# Altium integrated library Texas Instruments Interface I2C.IntLib: 424 symbols (part 3 of 23)
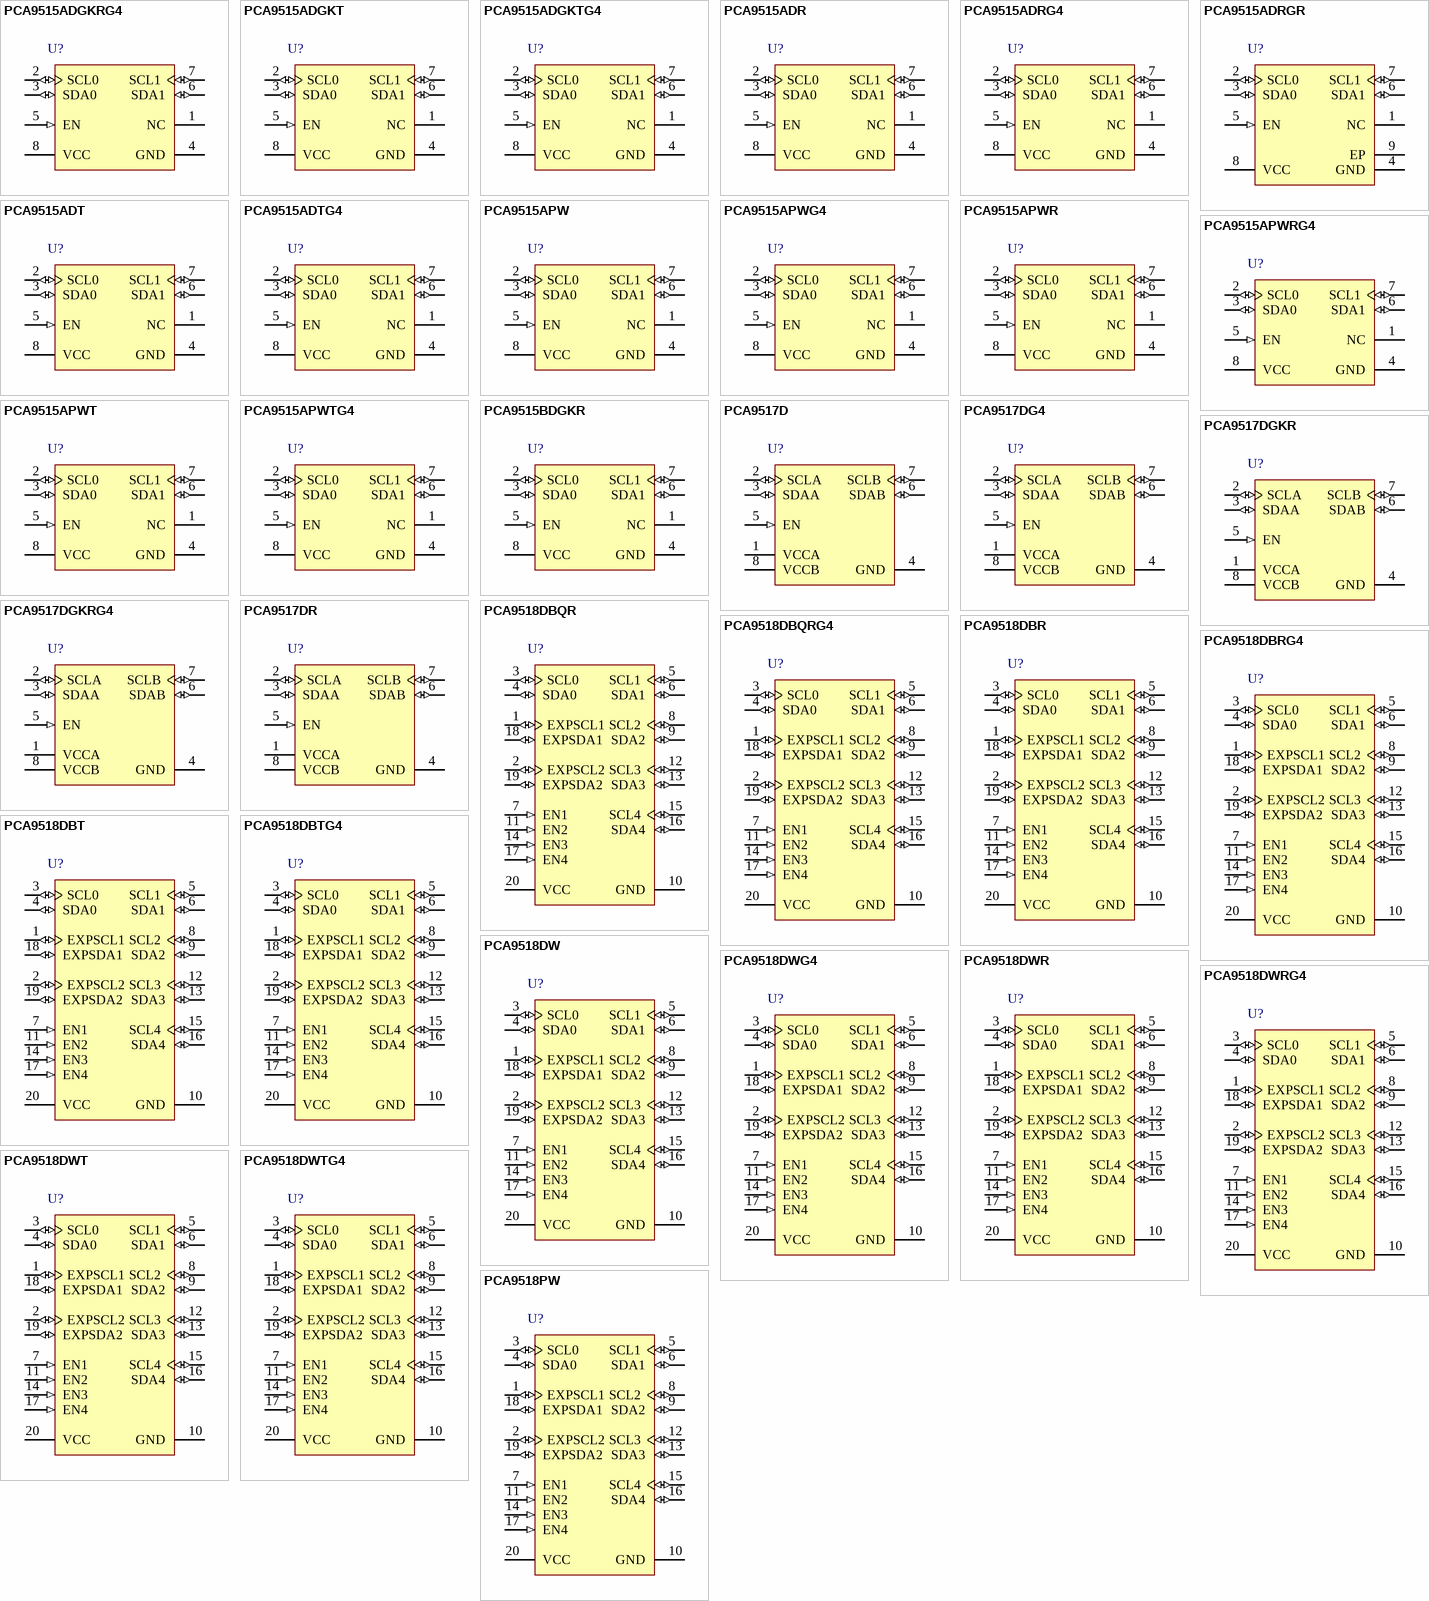
[diagram p15: symbols PCA9515ADGKRG4 to PCA9518PW]

## PCA9515APWRG4
designator U?
Dual Bidirectional I2C Bus and SMBus Repeater, 2 Channel Width, 2.3 to 3.6 V, -40 to 85 degC, 8-pin TSSOP (PW), Green (RoHS & no Sb/Br); Manufacturer: Texas Instruments; PartNumber: PCA9515APWRG4; SubFamily: I2C Hub, Buffer, Repeater; No. of Outputs: 2; VCC(Max)(V): 3.6; VCC(Min)(V): 2.3; Max Frequency(kHz): 400; Vcc range(V): 2.3 to 5.5; 5V Tolerant I/O: Yes; DatasheetVersion: SCPS150B; PackageVersion: revG, Feb-2011; PackageReference: PW8; PackageDescription: 8-Pin Plastic Thin Small Outline Package 3 x 4.4 mm Body ,0.65 mm Pitch; Supplier 1: Digi-Key; Supplier Part Number 1: PCA9515APWRG4-ND; Supplier 2: Mouser; Supplier Part Number 2: 595-PCA9515APWRG4; Eco-Plan: Green (RoHS & no Sb/Br); Channel Width: 2; Master Side I2C Bus Capacitance Supported(pF): 400; Slave Side I2C Bus Capacitance Supported(pF): 400; Open Drain I/O Type: Yes; Enable Pin: Yes; Mounting Technology: Surface Mount; Code_JEDEC: MO-153; ComponentLink1Description: Datasheet; ComponentLink1URL: http://www.ti.com/general/docs/lit/getliterature.tsp?genericPartNumber=PCA9515A&fileType=pdf
footprint PW8_N (TSOP, 8-Leads, Body 3x4.4mm, Pitch 0.65mm, IPC Medium Density)
footprint PW8_L (TSOP, 8-Leads, Body 3x4.4mm, Pitch 0.65mm, IPC High Density)
footprint PW8_M (TSOP, 8-Leads, Body 3x4.4mm, Pitch 0.65mm, IPC Low Density)
pins: 1 NC "No internal connection", 2 SCL0 (io) "Serial clock bus 0", 3 SDA0 (io) "Serial data bus 0", 4 GND (power) "Supply ground", 5 EN (in) "Active-high repeater enable input", 6 SDA1 (io) "Serial data bus 1", 7 SCL1 (io) "Serial clock bus 1", 8 VCC (power) "Supply power"

## PCA9515APWT
designator U?
Dual Bidirectional I2C Bus and SMBus Repeater, 2 Channel Width, 2.3 to 3.6 V, -40 to 85 degC, 8-pin TSSOP (PW), Green (RoHS & no Sb/Br); Manufacturer: Texas Instruments; PartNumber: PCA9515APWT; SubFamily: I2C Hub, Buffer, Repeater; No. of Outputs: 2; VCC(Max)(V): 3.6; VCC(Min)(V): 2.3; Max Frequency(kHz): 400; Vcc range(V): 2.3 to 5.5; 5V Tolerant I/O: Yes; DatasheetVersion: SCPS150B; PackageVersion: revG, Feb-2011; PackageReference: PW8; PackageDescription: 8-Pin Plastic Thin Small Outline Package 3 x 4.4 mm Body ,0.65 mm Pitch; Supplier 1: Digi-Key; Supplier Part Number 1: PCA9515APWT-ND; Supplier 2: Mouser; Supplier Part Number 2: 595-PCA9515APWT; Eco-Plan: Green (RoHS & no Sb/Br); Channel Width: 2; Master Side I2C Bus Capacitance Supported(pF): 400; Slave Side I2C Bus Capacitance Supported(pF): 400; Open Drain I/O Type: Yes; Enable Pin: Yes; Mounting Technology: Surface Mount; Code_JEDEC: MO-153; ComponentLink1Description: Datasheet; ComponentLink1URL: http://www.ti.com/general/docs/lit/getliterature.tsp?genericPartNumber=PCA9515A&fileType=pdf
footprint PW8_N (TSOP, 8-Leads, Body 3x4.4mm, Pitch 0.65mm, IPC Medium Density)
footprint PW8_L (TSOP, 8-Leads, Body 3x4.4mm, Pitch 0.65mm, IPC High Density)
footprint PW8_M (TSOP, 8-Leads, Body 3x4.4mm, Pitch 0.65mm, IPC Low Density)
pins: 1 NC "No internal connection", 2 SCL0 (io) "Serial clock bus 0", 3 SDA0 (io) "Serial data bus 0", 4 GND (power) "Supply ground", 5 EN (in) "Active-high repeater enable input", 6 SDA1 (io) "Serial data bus 1", 7 SCL1 (io) "Serial clock bus 1", 8 VCC (power) "Supply power"

## PCA9515APWTG4
designator U?
Dual Bidirectional I2C Bus and SMBus Repeater, 2 Channel Width, 2.3 to 3.6 V, -40 to 85 degC, 8-pin TSSOP (PW), Green (RoHS & no Sb/Br); Manufacturer: Texas Instruments; PartNumber: PCA9515APWTG4; SubFamily: I2C Hub, Buffer, Repeater; No. of Outputs: 2; VCC(Max)(V): 3.6; VCC(Min)(V): 2.3; Max Frequency(kHz): 400; Vcc range(V): 2.3 to 5.5; 5V Tolerant I/O: Yes; DatasheetVersion: SCPS150B; PackageVersion: revG, Feb-2011; PackageReference: PW8; PackageDescription: 8-Pin Plastic Thin Small Outline Package 3 x 4.4 mm Body ,0.65 mm Pitch; Supplier 1: Digi-Key; Supplier Part Number 1: PCA9515APWTG4-ND; Supplier 2: Mouser; Supplier Part Number 2: 595-PCA9515APWTG4; Eco-Plan: Green (RoHS & no Sb/Br); Channel Width: 2; Master Side I2C Bus Capacitance Supported(pF): 400; Slave Side I2C Bus Capacitance Supported(pF): 400; Open Drain I/O Type: Yes; Enable Pin: Yes; Mounting Technology: Surface Mount; Code_JEDEC: MO-153; ComponentLink1Description: Datasheet; ComponentLink1URL: http://www.ti.com/general/docs/lit/getliterature.tsp?genericPartNumber=PCA9515A&fileType=pdf
footprint PW8_N (TSOP, 8-Leads, Body 3x4.4mm, Pitch 0.65mm, IPC Medium Density)
footprint PW8_L (TSOP, 8-Leads, Body 3x4.4mm, Pitch 0.65mm, IPC High Density)
footprint PW8_M (TSOP, 8-Leads, Body 3x4.4mm, Pitch 0.65mm, IPC Low Density)
pins: 1 NC "No internal connection", 2 SCL0 (io) "Serial clock bus 0", 3 SDA0 (io) "Serial data bus 0", 4 GND (power) "Supply ground", 5 EN (in) "Active-high repeater enable input", 6 SDA1 (io) "Serial data bus 1", 7 SCL1 (io) "Serial clock bus 1", 8 VCC (power) "Supply power"

## PCA9515BDGKR
designator U?
Dual Bidirectional I2C Bus and SMBus Repeater, 2 Channel Width, 2.3 to 3.6 V, -40 to 85 degC, 8-pin MSOP (DGK), Green (RoHS & no Sb/Br); Manufacturer: Texas Instruments; PartNumber: PCA9515BDGKR; SubFamily: I2C Hub, Buffer, Repeater; No. of Outputs: 2; VCC(Max)(V): 3.6; VCC(Min)(V): 2.3; Max Frequency(kHz): 400; Vcc range(V): 2.3 to 5.5; 5V Tolerant I/O: Yes; DatasheetVersion: SCPS232; PackageVersion: revE, May-2006; PackageReference: DGK8; PackageDescription: 8-Pin Thin Small Outline Package 3 x 3 mm Body ,0.65 mm Pitch; Supplier 1: Digi-Key; Supplier Part Number 1: 296-30393-2-ND; Supplier 2: Digi-Key; Supplier Part Number 2: 296-30393-1-ND; Supplier 3: Digi-Key; Supplier Part Number 3: 296-30393-6-ND; Supplier 4: Newark; Supplier Part Number 4: 92T2268; Supplier 5: Mouser; Supplier Part Number 5: 595-PCA9515BDGKR; Eco-Plan: Green (RoHS & no Sb/Br); Channel Width: 2; Master Side I2C Bus Capacitance Supported(pF): 400; Slave Side I2C Bus Capacitance Supported(pF): 400; Open Drain I/O Type: Yes; Enable Pin: Yes; Mounting Technology: Surface Mount; Code_JEDEC: MO-187-AA; ComponentLink1Description: Datasheet; ComponentLink1URL: http://www.ti.com/general/docs/lit/getliterature.tsp?genericPartNumber=PCA9515B&fileType=pdf; ComponentLink2Description: Package Specification; ComponentLink2URL: http://www.ti.com/litv/pdf/msoi002j
footprint DGK8_N (TSOP, 8-Leads, Body 3x3mm, Pitch 0.65mm, IPC Medium Density)
footprint DGK8_L (TSOP, 8-Leads, Body 3x3mm, Pitch 0.65mm, IPC High Density)
footprint DGK8_M (TSOP, 8-Leads, Body 3x3mm, Pitch 0.65mm, IPC Low Density)
pins: 1 NC "No internal connection", 2 SCL0 (io) "Serial clock bus 0", 3 SDA0 (io) "Serial data bus 0", 4 GND (power) "Supply ground", 5 EN (in) "Active-high repeater enable input", 6 SDA1 (io) "Serial data bus 1", 7 SCL1 (io) "Serial clock bus 1", 8 VCC (power) "Supply power"

## PCA9517D
designator U?
Level-Translating I2C Bus Repeater, 2 Channel Width, 0.9 to 5.5 V, -40 to 85 degC, 8-pin SOIC (D), Green (RoHS & no Sb/Br); Manufacturer: Texas Instruments; PartNumber: PCA9517D; SubFamily: I2C Hub, Buffer, Repeater; VCC(Max)(V): 5.5; VCC(Min)(V): 0.9; Technology Family: PCA; Max Frequency(kHz): 400; Channel Width: 2; 5V Tolerant I/O: Yes; DatasheetVersion: SCPS157D; PackageVersion: revM, Jun-2011; PackageReference: D8; PackageDescription: 8-Pin Plastic Small Outline Integrated Circuit, 4.9 x 3.9 mm, Pitch 1.27 mm Pitch; Supplier 1: Digi-Key; Supplier Part Number 1: PCA9517DTI-ND; Supplier 2: Farnell; Supplier Part Number 2: 1703190; Supplier 3: Newark; Supplier Part Number 3: 71M0457; Supplier 4: Mouser; Supplier Part Number 4: 595-PCA9517D; Eco-Plan: Green (RoHS & no Sb/Br); Vcc range(V): 0.9 to 5.5; Master Side I2C Bus Capacitance Supported(pF): 400; Slave Side I2C Bus Capacitance Supported(pF): 400; Open Drain I/O Type: Yes; Enable Pin: Yes; Mounting Technology: Surface Mount; Code_JEDEC: MS-012AA; ComponentLink1Description: Datasheet; ComponentLink1URL: http://www.ti.com/general/docs/lit/getliterature.tsp?genericPartNumber=PCA9517&fileType=pdf
footprint D8_N (SOIC, 8-Leads, Body 4.9x3.9mm, Pitch 1.27mm, IPC Medium Density)
footprint D8_L (SOIC, 8-Leads, Body 4.9x3.9mm, Pitch 1.27mm, IPC High Density)
footprint D8_M (SOIC, 8-Leads, Body 4.9x3.9mm, Pitch 1.27mm, IPC Low Density)
pins: 1 VCCA (power) "A-side supply voltage (0.9 V to 5.5 V)", 2 SCLA (io) "Serial clock bus, A side. Connect to VCCA through a pullup resistor.", 3 SDAA (io) "Serial data bus, A side. Connect to VCCA through a pullup resistor.", 4 GND (power) "Supply ground", 5 EN (in) "Active-high repeater enable input", 6 SDAB (io) "Serial data bus, B side. Connect to VCCB through a pullup resistor.", 7 SCLB (io) "Serial clock bus, B side. Connect to VCCB through a pullup resistor.", 8 VCCB (power) "B-side and device supply voltage (2.7 V to 5.5 V)"

## PCA9517DG4
designator U?
Level-Translating I2C Bus Repeater, 2 Channel Width, 0.9 to 5.5 V, -40 to 85 degC, 8-pin SOIC (D), Green (RoHS & no Sb/Br); Manufacturer: Texas Instruments; PartNumber: PCA9517DG4; SubFamily: I2C Hub, Buffer, Repeater; VCC(Max)(V): 5.5; VCC(Min)(V): 0.9; Technology Family: PCA; Max Frequency(kHz): 400; Channel Width: 2; 5V Tolerant I/O: Yes; DatasheetVersion: SCPS157D; PackageVersion: revM, Jun-2011; PackageReference: D8; PackageDescription: 8-Pin Plastic Small Outline Integrated Circuit, 4.9 x 3.9 mm, Pitch 1.27 mm Pitch; Supplier 1: Digi-Key; Supplier Part Number 1: PCA9517DG4-ND; Supplier 2: Newark; Supplier Part Number 2: 72M4291; Supplier 3: Mouser; Supplier Part Number 3: 595-PCA9517DG4; Eco-Plan: Green (RoHS & no Sb/Br); Vcc range(V): 0.9 to 5.5; Master Side I2C Bus Capacitance Supported(pF): 400; Slave Side I2C Bus Capacitance Supported(pF): 400; Open Drain I/O Type: Yes; Enable Pin: Yes; Mounting Technology: Surface Mount; Code_JEDEC: MS-012AA; ComponentLink1Description: Datasheet; ComponentLink1URL: http://www.ti.com/general/docs/lit/getliterature.tsp?genericPartNumber=PCA9517&fileType=pdf
footprint D8_N (SOIC, 8-Leads, Body 4.9x3.9mm, Pitch 1.27mm, IPC Medium Density)
footprint D8_L (SOIC, 8-Leads, Body 4.9x3.9mm, Pitch 1.27mm, IPC High Density)
footprint D8_M (SOIC, 8-Leads, Body 4.9x3.9mm, Pitch 1.27mm, IPC Low Density)
pins: 1 VCCA (power) "A-side supply voltage (0.9 V to 5.5 V)", 2 SCLA (io) "Serial clock bus, A side. Connect to VCCA through a pullup resistor.", 3 SDAA (io) "Serial data bus, A side. Connect to VCCA through a pullup resistor.", 4 GND (power) "Supply ground", 5 EN (in) "Active-high repeater enable input", 6 SDAB (io) "Serial data bus, B side. Connect to VCCB through a pullup resistor.", 7 SCLB (io) "Serial clock bus, B side. Connect to VCCB through a pullup resistor.", 8 VCCB (power) "B-side and device supply voltage (2.7 V to 5.5 V)"

## PCA9517DGKR
designator U?
Level-Translating I2C Bus Repeater, 2 Channel Width, 0.9 to 5.5 V, -40 to 85 degC, 8-pin MSOP (DGK), Green (RoHS & no Sb/Br); Manufacturer: Texas Instruments; PartNumber: PCA9517DGKR; SubFamily: I2C Hub, Buffer, Repeater; VCC(Max)(V): 5.5; VCC(Min)(V): 0.9; Technology Family: PCA; Max Frequency(kHz): 400; Channel Width: 2; 5V Tolerant I/O: Yes; DatasheetVersion: SCPS157D; PackageVersion: revE, May-2006; PackageReference: DGK8; PackageDescription: 8-Pin Thin Small Outline Package 3 x 3 mm Body ,0.65 mm Pitch; Supplier 1: Digi-Key; Supplier Part Number 1: 296-24730-2-ND; Supplier 2: Digi-Key; Supplier Part Number 2: 296-24730-1-ND; Supplier 3: Digi-Key; Supplier Part Number 3: 296-24730-6-ND; Supplier 4: Newark; Supplier Part Number 4: 73M3916; Supplier 5: Mouser; Supplier Part Number 5: 595-PCA9517DGKR; Eco-Plan: Green (RoHS & no Sb/Br); Vcc range(V): 0.9 to 5.5; Master Side I2C Bus Capacitance Supported(pF): 400; Slave Side I2C Bus Capacitance Supported(pF): 400; Open Drain I/O Type: Yes; Enable Pin: Yes; Mounting Technology: Surface Mount; Code_JEDEC: MO-187-AA; ComponentLink1Description: Datasheet; ComponentLink1URL: http://www.ti.com/general/docs/lit/getliterature.tsp?genericPartNumber=PCA9517&fileType=pdf; ComponentLink2Description: Package Specification; ComponentLink2URL: http://www.ti.com/litv/pdf/msoi002j
footprint DGK8_N (TSOP, 8-Leads, Body 3x3mm, Pitch 0.65mm, IPC Medium Density)
footprint DGK8_L (TSOP, 8-Leads, Body 3x3mm, Pitch 0.65mm, IPC High Density)
footprint DGK8_M (TSOP, 8-Leads, Body 3x3mm, Pitch 0.65mm, IPC Low Density)
pins: 1 VCCA (power) "A-side supplyVoltage (0.9V to 5.5V)", 2 SCLA (io) "Serial clock bus, A side. Connect to VCCA  through a pullup resistor.", 3 SDAA (io) "Serial data bus, A side. Connect to VCCA  through a pullup resistor.", 4 GND (power) "Supply ground", 5 EN (in) "Active-high repeater enable input", 6 SDAB (io) "Serial data bus, B side. Connect toVCBB   through a pullup resistor.", 7 SCLB (io) "Serial clock bus, B side. Connect to VCCB through a pullup resistor.", 8 VCCB (power) "B-side and device supplyVoltage (2.7V to 5.5V)"

## PCA9517DGKRG4
designator U?
Level-Translating I2C Bus Repeater, 2 Channel Width, 0.9 to 5.5 V, -40 to 85 degC, 8-pin MSOP (DGK), Green (RoHS & no Sb/Br); Manufacturer: Texas Instruments; PartNumber: PCA9517DGKRG4; SubFamily: I2C Hub, Buffer, Repeater; VCC(Max)(V): 5.5; VCC(Min)(V): 0.9; Technology Family: PCA; Max Frequency(kHz): 400; Channel Width: 2; 5V Tolerant I/O: Yes; DatasheetVersion: SCPS157D; PackageVersion: revE, May-2006; PackageReference: DGK8; PackageDescription: 8-Pin Thin Small Outline Package 3 x 3 mm Body ,0.65 mm Pitch; Supplier 1: Digi-Key; Supplier Part Number 1: PCA9517DGKRG4-ND; Supplier 2: Mouser; Supplier Part Number 2: 595-PCA9517DGKRG4; Eco-Plan: Green (RoHS & no Sb/Br); Vcc range(V): 0.9 to 5.5; Master Side I2C Bus Capacitance Supported(pF): 400; Slave Side I2C Bus Capacitance Supported(pF): 400; Open Drain I/O Type: Yes; Enable Pin: Yes; Mounting Technology: Surface Mount; Code_JEDEC: MO-187-AA; ComponentLink1Description: Datasheet; ComponentLink1URL: http://www.ti.com/general/docs/lit/getliterature.tsp?genericPartNumber=PCA9517&fileType=pdf; ComponentLink2Description: Package Specification; ComponentLink2URL: http://www.ti.com/litv/pdf/msoi002j
footprint DGK8_N (TSOP, 8-Leads, Body 3x3mm, Pitch 0.65mm, IPC Medium Density)
footprint DGK8_L (TSOP, 8-Leads, Body 3x3mm, Pitch 0.65mm, IPC High Density)
footprint DGK8_M (TSOP, 8-Leads, Body 3x3mm, Pitch 0.65mm, IPC Low Density)
pins: 1 VCCA (power) "A-side supplyVoltage (0.9V to 5.5V)", 2 SCLA (io) "Serial clock bus, A side. Connect to VCCA  through a pullup resistor.", 3 SDAA (io) "Serial data bus, A side. Connect to VCCA  through a pullup resistor.", 4 GND (power) "Supply ground", 5 EN (in) "Active-high repeater enable input", 6 SDAB (io) "Serial data bus, B side. Connect toVCBB   through a pullup resistor.", 7 SCLB (io) "Serial clock bus, B side. Connect to VCCB through a pullup resistor.", 8 VCCB (power) "B-side and device supplyVoltage (2.7V to 5.5V)"

## PCA9517DR
designator U?
Level-Translating I2C Bus Repeater, 2 Channel Width, 0.9 to 5.5 V, -40 to 85 degC, 8-pin SOIC (D), Green (RoHS & no Sb/Br); Manufacturer: Texas Instruments; PartNumber: PCA9517DR; SubFamily: I2C Hub, Buffer, Repeater; VCC(Max)(V): 5.5; VCC(Min)(V): 0.9; Technology Family: PCA; Max Frequency(kHz): 400; Channel Width: 2; 5V Tolerant I/O: Yes; DatasheetVersion: SCPS157D; PackageVersion: revM, Jun-2011; PackageReference: D8; PackageDescription: 8-Pin Plastic Small Outline Integrated Circuit, 4.9 x 3.9 mm, Pitch 1.27 mm Pitch; Supplier 1: Digi-Key; Supplier Part Number 1: 296-23734-2-ND; Supplier 2: Digi-Key; Supplier Part Number 2: 296-23734-1-ND; Supplier 3: Digi-Key; Supplier Part Number 3: 296-23734-6-ND; Supplier 4: Newark; Supplier Part Number 4: 72M4292; Supplier 5: Mouser; Supplier Part Number 5: 595-PCA9517DR; Eco-Plan: Green (RoHS & no Sb/Br); Vcc range(V): 0.9 to 5.5; Master Side I2C Bus Capacitance Supported(pF): 400; Slave Side I2C Bus Capacitance Supported(pF): 400; Open Drain I/O Type: Yes; Enable Pin: Yes; Mounting Technology: Surface Mount; Code_JEDEC: MS-012AA; ComponentLink1Description: Datasheet; ComponentLink1URL: http://www.ti.com/general/docs/lit/getliterature.tsp?genericPartNumber=PCA9517&fileType=pdf
footprint D8_N (SOIC, 8-Leads, Body 4.9x3.9mm, Pitch 1.27mm, IPC Medium Density)
footprint D8_L (SOIC, 8-Leads, Body 4.9x3.9mm, Pitch 1.27mm, IPC High Density)
footprint D8_M (SOIC, 8-Leads, Body 4.9x3.9mm, Pitch 1.27mm, IPC Low Density)
pins: 1 VCCA (power) "A-side supply voltage (0.9 V to 5.5 V)", 2 SCLA (io) "Serial clock bus, A side. Connect to VCCA through a pullup resistor.", 3 SDAA (io) "Serial data bus, A side. Connect to VCCA through a pullup resistor.", 4 GND (power) "Supply ground", 5 EN (in) "Active-high repeater enable input", 6 SDAB (io) "Serial data bus, B side. Connect to VCCB through a pullup resistor.", 7 SCLB (io) "Serial clock bus, B side. Connect to VCCB through a pullup resistor.", 8 VCCB (power) "B-side and device supply voltage (2.7 V to 5.5 V)"

## PCA9518DBQR
designator U?
Expandable Five-Channel I2C Hub, 5 Channel Width, 3.0 to 3.6 V, -40 to 85 degC, 20-pin SSOP (DBQ), Green (RoHS & no Sb/Br); Manufacturer: Texas Instruments; PartNumber: PCA9518DBQR; SubFamily: I2C Hub, Buffer, Repeater; VCC(Max)(V): 3.6; VCC(Min)(V): 3; Technology Family: PCA; Max Frequency(kHz): 400; Channel Width: 5; EXP Pin: Yes; DatasheetVersion: SCPS132A; PackageVersion: revH, Oct-2008; PackageReference: DBQ20; PackageDescription: 20-Pin Small Outline Package 0.635 mm Pitch; Supplier 1: Digi-Key; Supplier Part Number 1: 296-22764-2-ND; Supplier 2: Digi-Key; Supplier Part Number 2: 296-22764-1-ND; Supplier 3: Digi-Key; Supplier Part Number 3: 296-22764-6-ND; Supplier 4: Mouser; Supplier Part Number 4: 595-PCA9518DBQR; Eco-Plan: Green (RoHS & no Sb/Br); Vcc range(V): 3.0 to 3.6; Master Side I2C Bus Capacitance Supported(pF): 400; Slave Side I2C Bus Capacitance Supported(pF): 400; 5V Tolerant I/O: Yes; Open Drain I/O Type: Yes; Enable Pin: Yes; Mounting Technology: Surface Mount; Code_JEDEC: MO-137-AD; ComponentLink1Description: Datasheet; ComponentLink1URL: http://www.ti.com/general/docs/lit/getliterature.tsp?genericPartNumber=PCA9518&fileType=pdf; ComponentLink2Description: Package Specification; ComponentLink2URL: http://www.ti.com/litv/pdf/mpds210a
footprint DBQ020_N (SOP, 20-Leads, Body 8.7x3.9mm, Pitch 0.635mm, IPC Medium Density)
footprint DBQ020_L (SOP, 20-Leads, Body 8.7x3.9mm, Pitch 0.635mm, IPC High Density)
footprint DBQ020_M (SOP, 20-Leads, Body 8.7x3.9mm, Pitch 0.635mm, IPC Low Density)
pins: 1 EXPSCL1 (io) "Expandable serial clock pin 1. Connect to VCC through a pullup resistor.", 2 EXPSCL2 (io) "Expandable serial clock pin 2. Connect to VCC through a pullup resistor.", 3 SCL0 (io) "Serial clock bus 0. Connect to VCC through a pullup resistor.", 4 SDA0 (io) "Serial data bus 0. Connect to VCC through a pullup resistor.", 5 SCL1 (io) "Serial clock bus 1. Connect to VCC through a pullup resistor.", 6 SDA1 (io) "Serial data bus 1. Connect to VCC through a pullup resistor.", 7 EN1 (in) "Active-high bus enable 1", 8 SCL2 (io) "Serial clock bus 2. Connect to VCC through a pullup resistor.", 9 SDA2 (io) "Serial data bus 2. Connect to VCC through a pullup resistor.", 10 GND (power) "Ground", 11 EN2 (in) "Active-high bus enable 2", 12 SCL3 (io) "Serial clock bus 3. Connect to VCC through a pullup resistor.", 13 SDA3 (io) "Serial data bus 3. Connect to VCC through a pullup resistor.", 14 EN3 (in) "Active-high bus enable 3", 15 SCL4 (io) "Serial clock bus 4. Connect to VCC through a pullup resistor.", 16 SDA4 (io) "Serial data bus 4. Connect to VCC through a pullup resistor.", 17 EN4 (in) "Active-high bus enable 4", 18 EXPSDA1 (io) "Expandable serial data pin 1. Connect to VCC through a pullup resistor.", 19 EXPSDA2 (io) "Expandable serial data pin 2. Connect to VCC through a pullup resistor.", 20 VCC (power) "Supply Voltage"

## PCA9518DBQRG4
designator U?
Expandable Five-Channel I2C Hub, 5 Channel Width, 3.0 to 3.6 V, -40 to 85 degC, 20-pin SSOP (DBQ), Green (RoHS & no Sb/Br); Manufacturer: Texas Instruments; PartNumber: PCA9518DBQRG4; SubFamily: I2C Hub, Buffer, Repeater; VCC(Max)(V): 3.6; VCC(Min)(V): 3; Technology Family: PCA; Max Frequency(kHz): 400; Channel Width: 5; EXP Pin: Yes; DatasheetVersion: SCPS132A; PackageVersion: revH, Oct-2008; PackageReference: DBQ20; PackageDescription: 20-Pin Small Outline Package 0.635 mm Pitch; Supplier 1: Digi-Key; Supplier Part Number 1: PCA9518DBQRG4-ND; Supplier 2: Mouser; Supplier Part Number 2: 595-PCA9518DBQRG4; Eco-Plan: Green (RoHS & no Sb/Br); Vcc range(V): 3.0 to 3.6; Master Side I2C Bus Capacitance Supported(pF): 400; Slave Side I2C Bus Capacitance Supported(pF): 400; 5V Tolerant I/O: Yes; Open Drain I/O Type: Yes; Enable Pin: Yes; Mounting Technology: Surface Mount; Code_JEDEC: MO-137-AD; ComponentLink1Description: Datasheet; ComponentLink1URL: http://www.ti.com/general/docs/lit/getliterature.tsp?genericPartNumber=PCA9518&fileType=pdf; ComponentLink2Description: Package Specification; ComponentLink2URL: http://www.ti.com/litv/pdf/mpds210a
footprint DBQ020_N (SOP, 20-Leads, Body 8.7x3.9mm, Pitch 0.635mm, IPC Medium Density)
footprint DBQ020_L (SOP, 20-Leads, Body 8.7x3.9mm, Pitch 0.635mm, IPC High Density)
footprint DBQ020_M (SOP, 20-Leads, Body 8.7x3.9mm, Pitch 0.635mm, IPC Low Density)
pins: 1 EXPSCL1 (io) "Expandable serial clock pin 1. Connect to VCC through a pullup resistor.", 2 EXPSCL2 (io) "Expandable serial clock pin 2. Connect to VCC through a pullup resistor.", 3 SCL0 (io) "Serial clock bus 0. Connect to VCC through a pullup resistor.", 4 SDA0 (io) "Serial data bus 0. Connect to VCC through a pullup resistor.", 5 SCL1 (io) "Serial clock bus 1. Connect to VCC through a pullup resistor.", 6 SDA1 (io) "Serial data bus 1. Connect to VCC through a pullup resistor.", 7 EN1 (in) "Active-high bus enable 1", 8 SCL2 (io) "Serial clock bus 2. Connect to VCC through a pullup resistor.", 9 SDA2 (io) "Serial data bus 2. Connect to VCC through a pullup resistor.", 10 GND (power) "Ground", 11 EN2 (in) "Active-high bus enable 2", 12 SCL3 (io) "Serial clock bus 3. Connect to VCC through a pullup resistor.", 13 SDA3 (io) "Serial data bus 3. Connect to VCC through a pullup resistor.", 14 EN3 (in) "Active-high bus enable 3", 15 SCL4 (io) "Serial clock bus 4. Connect to VCC through a pullup resistor.", 16 SDA4 (io) "Serial data bus 4. Connect to VCC through a pullup resistor.", 17 EN4 (in) "Active-high bus enable 4", 18 EXPSDA1 (io) "Expandable serial data pin 1. Connect to VCC through a pullup resistor.", 19 EXPSDA2 (io) "Expandable serial data pin 2. Connect to VCC through a pullup resistor.", 20 VCC (power) "Supply Voltage"

## PCA9518DBR
designator U?
Expandable Five-Channel I2C Hub, 5 Channel Width, 3.0 to 3.6 V, -40 to 85 degC, 20-pin SSOP (DB), Green (RoHS & no Sb/Br); Manufacturer: Texas Instruments; PartNumber: PCA9518DBR; SubFamily: I2C Hub, Buffer, Repeater; VCC(Max)(V): 3.6; VCC(Min)(V): 3; Technology Family: PCA; Max Frequency(kHz): 400; Channel Width: 5; EXP Pin: Yes; DatasheetVersion: SCPS132A; PackageVersion: revE, Dec-2001; PackageReference: DB20; PackageDescription: 20-Pin Plastic Small Outline Package, 7.2 x 5.3 mm Body, 0.65 mm Pitch; Supplier 1: Digi-Key; Supplier Part Number 1: 296-22765-2-ND; Supplier 2: Digi-Key; Supplier Part Number 2: 296-22765-1-ND; Supplier 3: Digi-Key; Supplier Part Number 3: 296-22765-6-ND; Supplier 4: Mouser; Supplier Part Number 4: 595-PCA9518DBR; Eco-Plan: Green (RoHS & no Sb/Br); Vcc range(V): 3.0 to 3.6; Master Side I2C Bus Capacitance Supported(pF): 400; Slave Side I2C Bus Capacitance Supported(pF): 400; 5V Tolerant I/O: Yes; Open Drain I/O Type: Yes; Enable Pin: Yes; Mounting Technology: Surface Mount; Code_JEDEC: MO-150; ComponentLink1Description: Datasheet; ComponentLink1URL: http://www.ti.com/general/docs/lit/getliterature.tsp?genericPartNumber=PCA9518&fileType=pdf; ComponentLink2Description: Package Specification; ComponentLink2URL: http://www.ti.com/litv/pdf/msso002e
footprint DB20_N (SOP, 20-Leads, Body 7.2x5.3mm, Pitch 0.65mm, IPC Medium Density)
footprint DB20_L (SOP, 20-Leads, Body 7.2x5.3mm, Pitch 0.65mm, IPC High Density)
footprint DB20_M (SOP, 20-Leads, Body 7.2x5.3mm, Pitch 0.65mm, IPC Low Density)
pins: 1 EXPSCL1 (io) "Expandable serial clock pin 1. Connect to VCC through a pullup resistor.", 2 EXPSCL2 (io) "Expandable serial clock pin 2. Connect to VCC through a pullup resistor.", 3 SCL0 (io) "Serial clock bus 0. Connect to VCC through a pullup resistor.", 4 SDA0 (io) "Serial data bus 0. Connect to VCC through a pullup resistor.", 5 SCL1 (io) "Serial clock bus 1. Connect to VCC through a pullup resistor.", 6 SDA1 (io) "Serial data bus 1. Connect to VCC through a pullup resistor.", 7 EN1 (in) "Active-high bus enable 1", 8 SCL2 (io) "Serial clock bus 2. Connect to VCC through a pullup resistor.", 9 SDA2 (io) "Serial data bus 2. Connect to VCC through a pullup resistor.", 10 GND (power) "Ground", 11 EN2 (in) "Active-high bus enable 2", 12 SCL3 (io) "Serial clock bus 3. Connect to VCC through a pullup resistor.", 13 SDA3 (io) "Serial data bus 3. Connect to VCC through a pullup resistor.", 14 EN3 (in) "Active-high bus enable 3", 15 SCL4 (io) "Serial clock bus 4. Connect to VCC through a pullup resistor.", 16 SDA4 (io) "Serial data bus 4. Connect to VCC through a pullup resistor.", 17 EN4 (in) "Active-high bus enable 4", 18 EXPSDA1 (io) "Expandable serial data pin 1. Connect to VCC through a pullup resistor.", 19 EXPSDA2 (io) "Expandable serial data pin 2. Connect to VCC through a pullup resistor.", 20 VCC (power) "Supply Voltage"

## PCA9518DBRG4
designator U?
Expandable Five-Channel I2C Hub, 5 Channel Width, 3.0 to 3.6 V, -40 to 85 degC, 20-pin SSOP (DB), Green (RoHS & no Sb/Br); Manufacturer: Texas Instruments; PartNumber: PCA9518DBRG4; SubFamily: I2C Hub, Buffer, Repeater; VCC(Max)(V): 3.6; VCC(Min)(V): 3; Technology Family: PCA; Max Frequency(kHz): 400; Channel Width: 5; EXP Pin: Yes; DatasheetVersion: SCPS132A; PackageVersion: revE, Dec-2001; PackageReference: DB20; PackageDescription: 20-Pin Plastic Small Outline Package, 7.2 x 5.3 mm Body, 0.65 mm Pitch; Supplier 1: Digi-Key; Supplier Part Number 1: PCA9518DBRG4-ND; Supplier 2: Mouser; Supplier Part Number 2: 595-PCA9518DBRG4; Eco-Plan: Green (RoHS & no Sb/Br); Vcc range(V): 3.0 to 3.6; Master Side I2C Bus Capacitance Supported(pF): 400; Slave Side I2C Bus Capacitance Supported(pF): 400; 5V Tolerant I/O: Yes; Open Drain I/O Type: Yes; Enable Pin: Yes; Mounting Technology: Surface Mount; Code_JEDEC: MO-150; ComponentLink1Description: Datasheet; ComponentLink1URL: http://www.ti.com/general/docs/lit/getliterature.tsp?genericPartNumber=PCA9518&fileType=pdf; ComponentLink2Description: Package Specification; ComponentLink2URL: http://www.ti.com/litv/pdf/msso002e
footprint DB20_N (SOP, 20-Leads, Body 7.2x5.3mm, Pitch 0.65mm, IPC Medium Density)
footprint DB20_L (SOP, 20-Leads, Body 7.2x5.3mm, Pitch 0.65mm, IPC High Density)
footprint DB20_M (SOP, 20-Leads, Body 7.2x5.3mm, Pitch 0.65mm, IPC Low Density)
pins: 1 EXPSCL1 (io) "Expandable serial clock pin 1. Connect to VCC through a pullup resistor.", 2 EXPSCL2 (io) "Expandable serial clock pin 2. Connect to VCC through a pullup resistor.", 3 SCL0 (io) "Serial clock bus 0. Connect to VCC through a pullup resistor.", 4 SDA0 (io) "Serial data bus 0. Connect to VCC through a pullup resistor.", 5 SCL1 (io) "Serial clock bus 1. Connect to VCC through a pullup resistor.", 6 SDA1 (io) "Serial data bus 1. Connect to VCC through a pullup resistor.", 7 EN1 (in) "Active-high bus enable 1", 8 SCL2 (io) "Serial clock bus 2. Connect to VCC through a pullup resistor.", 9 SDA2 (io) "Serial data bus 2. Connect to VCC through a pullup resistor.", 10 GND (power) "Ground", 11 EN2 (in) "Active-high bus enable 2", 12 SCL3 (io) "Serial clock bus 3. Connect to VCC through a pullup resistor.", 13 SDA3 (io) "Serial data bus 3. Connect to VCC through a pullup resistor.", 14 EN3 (in) "Active-high bus enable 3", 15 SCL4 (io) "Serial clock bus 4. Connect to VCC through a pullup resistor.", 16 SDA4 (io) "Serial data bus 4. Connect to VCC through a pullup resistor.", 17 EN4 (in) "Active-high bus enable 4", 18 EXPSDA1 (io) "Expandable serial data pin 1. Connect to VCC through a pullup resistor.", 19 EXPSDA2 (io) "Expandable serial data pin 2. Connect to VCC through a pullup resistor.", 20 VCC (power) "Supply Voltage"

## PCA9518DBT
designator U?
Expandable Five-Channel I2C Hub, 5 Channel Width, 3.0 to 3.6 V, -40 to 85 degC, 20-pin SSOP (DB), Green (RoHS & no Sb/Br); Manufacturer: Texas Instruments; PartNumber: PCA9518DBT; SubFamily: I2C Hub, Buffer, Repeater; VCC(Max)(V): 3.6; VCC(Min)(V): 3; Technology Family: PCA; Max Frequency(kHz): 400; Channel Width: 5; EXP Pin: Yes; DatasheetVersion: SCPS132A; PackageVersion: revE, Dec-2001; PackageReference: DB20; PackageDescription: 20-Pin Plastic Small Outline Package, 7.2 x 5.3 mm Body, 0.65 mm Pitch; Supplier 1: Digi-Key; Supplier Part Number 1: PCA9518DBT-ND; Supplier 2: Newark; Supplier Part Number 2: 53M3800; Supplier 3: Mouser; Supplier Part Number 3: 595-PCA9518DBT; Eco-Plan: Green (RoHS & no Sb/Br); Vcc range(V): 3.0 to 3.6; Master Side I2C Bus Capacitance Supported(pF): 400; Slave Side I2C Bus Capacitance Supported(pF): 400; 5V Tolerant I/O: Yes; Open Drain I/O Type: Yes; Enable Pin: Yes; Mounting Technology: Surface Mount; Code_JEDEC: MO-150; ComponentLink1Description: Datasheet; ComponentLink1URL: http://www.ti.com/general/docs/lit/getliterature.tsp?genericPartNumber=PCA9518&fileType=pdf; ComponentLink2Description: Package Specification; ComponentLink2URL: http://www.ti.com/litv/pdf/msso002e
footprint DB20_N (SOP, 20-Leads, Body 7.2x5.3mm, Pitch 0.65mm, IPC Medium Density)
footprint DB20_L (SOP, 20-Leads, Body 7.2x5.3mm, Pitch 0.65mm, IPC High Density)
footprint DB20_M (SOP, 20-Leads, Body 7.2x5.3mm, Pitch 0.65mm, IPC Low Density)
pins: 1 EXPSCL1 (io) "Expandable serial clock pin 1. Connect to VCC through a pullup resistor.", 2 EXPSCL2 (io) "Expandable serial clock pin 2. Connect to VCC through a pullup resistor.", 3 SCL0 (io) "Serial clock bus 0. Connect to VCC through a pullup resistor.", 4 SDA0 (io) "Serial data bus 0. Connect to VCC through a pullup resistor.", 5 SCL1 (io) "Serial clock bus 1. Connect to VCC through a pullup resistor.", 6 SDA1 (io) "Serial data bus 1. Connect to VCC through a pullup resistor.", 7 EN1 (in) "Active-high bus enable 1", 8 SCL2 (io) "Serial clock bus 2. Connect to VCC through a pullup resistor.", 9 SDA2 (io) "Serial data bus 2. Connect to VCC through a pullup resistor.", 10 GND (power) "Ground", 11 EN2 (in) "Active-high bus enable 2", 12 SCL3 (io) "Serial clock bus 3. Connect to VCC through a pullup resistor.", 13 SDA3 (io) "Serial data bus 3. Connect to VCC through a pullup resistor.", 14 EN3 (in) "Active-high bus enable 3", 15 SCL4 (io) "Serial clock bus 4. Connect to VCC through a pullup resistor.", 16 SDA4 (io) "Serial data bus 4. Connect to VCC through a pullup resistor.", 17 EN4 (in) "Active-high bus enable 4", 18 EXPSDA1 (io) "Expandable serial data pin 1. Connect to VCC through a pullup resistor.", 19 EXPSDA2 (io) "Expandable serial data pin 2. Connect to VCC through a pullup resistor.", 20 VCC (power) "Supply Voltage"

## PCA9518DBTG4
designator U?
Expandable Five-Channel I2C Hub, 5 Channel Width, 3.0 to 3.6 V, -40 to 85 degC, 20-pin SSOP (DB), Green (RoHS & no Sb/Br); Manufacturer: Texas Instruments; PartNumber: PCA9518DBTG4; SubFamily: I2C Hub, Buffer, Repeater; VCC(Max)(V): 3.6; VCC(Min)(V): 3; Technology Family: PCA; Max Frequency(kHz): 400; Channel Width: 5; EXP Pin: Yes; DatasheetVersion: SCPS132A; PackageVersion: revE, Dec-2001; PackageReference: DB20; PackageDescription: 20-Pin Plastic Small Outline Package, 7.2 x 5.3 mm Body, 0.65 mm Pitch; Supplier 1: Digi-Key; Supplier Part Number 1: PCA9518DBTG4-ND; Supplier 2: Mouser; Supplier Part Number 2: 595-PCA9518DBTG4; Eco-Plan: Green (RoHS & no Sb/Br); Vcc range(V): 3.0 to 3.6; Master Side I2C Bus Capacitance Supported(pF): 400; Slave Side I2C Bus Capacitance Supported(pF): 400; 5V Tolerant I/O: Yes; Open Drain I/O Type: Yes; Enable Pin: Yes; Mounting Technology: Surface Mount; Code_JEDEC: MO-150; ComponentLink1Description: Datasheet; ComponentLink1URL: http://www.ti.com/general/docs/lit/getliterature.tsp?genericPartNumber=PCA9518&fileType=pdf; ComponentLink2Description: Package Specification; ComponentLink2URL: http://www.ti.com/litv/pdf/msso002e
footprint DB20_N (SOP, 20-Leads, Body 7.2x5.3mm, Pitch 0.65mm, IPC Medium Density)
footprint DB20_L (SOP, 20-Leads, Body 7.2x5.3mm, Pitch 0.65mm, IPC High Density)
footprint DB20_M (SOP, 20-Leads, Body 7.2x5.3mm, Pitch 0.65mm, IPC Low Density)
pins: 1 EXPSCL1 (io) "Expandable serial clock pin 1. Connect to VCC through a pullup resistor.", 2 EXPSCL2 (io) "Expandable serial clock pin 2. Connect to VCC through a pullup resistor.", 3 SCL0 (io) "Serial clock bus 0. Connect to VCC through a pullup resistor.", 4 SDA0 (io) "Serial data bus 0. Connect to VCC through a pullup resistor.", 5 SCL1 (io) "Serial clock bus 1. Connect to VCC through a pullup resistor.", 6 SDA1 (io) "Serial data bus 1. Connect to VCC through a pullup resistor.", 7 EN1 (in) "Active-high bus enable 1", 8 SCL2 (io) "Serial clock bus 2. Connect to VCC through a pullup resistor.", 9 SDA2 (io) "Serial data bus 2. Connect to VCC through a pullup resistor.", 10 GND (power) "Ground", 11 EN2 (in) "Active-high bus enable 2", 12 SCL3 (io) "Serial clock bus 3. Connect to VCC through a pullup resistor.", 13 SDA3 (io) "Serial data bus 3. Connect to VCC through a pullup resistor.", 14 EN3 (in) "Active-high bus enable 3", 15 SCL4 (io) "Serial clock bus 4. Connect to VCC through a pullup resistor.", 16 SDA4 (io) "Serial data bus 4. Connect to VCC through a pullup resistor.", 17 EN4 (in) "Active-high bus enable 4", 18 EXPSDA1 (io) "Expandable serial data pin 1. Connect to VCC through a pullup resistor.", 19 EXPSDA2 (io) "Expandable serial data pin 2. Connect to VCC through a pullup resistor.", 20 VCC (power) "Supply Voltage"

## PCA9518DW
designator U?
Expandable Five-Channel I2C Hub, 5 Channel Width, 3.0 to 3.6 V, -40 to 85 degC, 20-pin SOIC (DW), Green (RoHS & no Sb/Br); Manufacturer: Texas Instruments; PartNumber: PCA9518DW; SubFamily: I2C Hub, Buffer, Repeater; VCC(Max)(V): 3.6; VCC(Min)(V): 3; Technology Family: PCA; Max Frequency(kHz): 400; Channel Width: 5; EXP Pin: Yes; DatasheetVersion: SCPS132A; PackageVersion: revG, Jan-2011; PackageReference: DW20; PackageDescription: 20-Pin Plastic Small Outline Integrated Circuit, 12.8 x 7.5 mm, Pitch 1.27 mm Pitch; Supplier 1: Digi-Key; Supplier Part Number 1: PCA9518DW-ND; Supplier 2: Newark; Supplier Part Number 2: 53M3802; Supplier 3: Mouser; Supplier Part Number 3: 595-PCA9518DW; Eco-Plan: Green (RoHS & no Sb/Br); Vcc range(V): 3.0 to 3.6; Master Side I2C Bus Capacitance Supported(pF): 400; Slave Side I2C Bus Capacitance Supported(pF): 400; 5V Tolerant I/O: Yes; Open Drain I/O Type: Yes; Enable Pin: Yes; Mounting Technology: Surface Mount; Code_JEDEC: MS-013-AC; ComponentLink1Description: Datasheet; ComponentLink1URL: http://www.ti.com/general/docs/lit/getliterature.tsp?genericPartNumber=PCA9518&fileType=pdf; ComponentLink2Description: Package Specification; ComponentLink2URL: http://www.ti.com/litv/pdf/mpds006c
footprint DW20_N (SOIC, 20-Leads, Body 12.8x7.5mm, Pitch 1.27mm, IPC Medium Density)
footprint DW20_L (SOIC, 20-Leads, Body 12.8x7.5mm, Pitch 1.27mm, IPC High Density)
footprint DW20_M (SOIC, 20-Leads, Body 12.8x7.5mm, Pitch 1.27mm, IPC Low Density)
pins: 1 EXPSCL1 (io) "Expandable serial clock pin 1. Connect to VCC through a pullup resistor.", 2 EXPSCL2 (io) "Expandable serial clock pin 2. Connect to VCC through a pullup resistor.", 3 SCL0 (io) "Serial clock bus 0. Connect to VCC through a pullup resistor.", 4 SDA0 (io) "Serial data bus 0. Connect to VCC through a pullup resistor.", 5 SCL1 (io) "Serial clock bus 1. Connect to VCC through a pullup resistor.", 6 SDA1 (io) "Serial data bus 1. Connect to VCC through a pullup resistor.", 7 EN1 (in) "Active-high bus enable 1", 8 SCL2 (io) "Serial clock bus 2. Connect to VCC through a pullup resistor.", 9 SDA2 (io) "Serial data bus 2. Connect to VCC through a pullup resistor.", 10 GND (power) "Ground", 11 EN2 (in) "Active-high bus enable 2", 12 SCL3 (io) "Serial clock bus 3. Connect to VCC through a pullup resistor.", 13 SDA3 (io) "Serial data bus 3. Connect to VCC through a pullup resistor.", 14 EN3 (in) "Active-high bus enable 3", 15 SCL4 (io) "Serial clock bus 4. Connect to VCC through a pullup resistor.", 16 SDA4 (io) "Serial data bus 4. Connect to VCC through a pullup resistor.", 17 EN4 (in) "Active-high bus enable 4", 18 EXPSDA1 (io) "Expandable serial data pin 1. Connect to VCC through a pullup resistor.", 19 EXPSDA2 (io) "Expandable serial data pin 2. Connect to VCC through a pullup resistor.", 20 VCC (power) "SupplyVoltage"

## PCA9518DWG4
designator U?
Expandable Five-Channel I2C Hub, 5 Channel Width, 3.0 to 3.6 V, -40 to 85 degC, 20-pin SOIC (DW), Green (RoHS & no Sb/Br); Manufacturer: Texas Instruments; PartNumber: PCA9518DWG4; SubFamily: I2C Hub, Buffer, Repeater; VCC(Max)(V): 3.6; VCC(Min)(V): 3; Technology Family: PCA; Max Frequency(kHz): 400; Channel Width: 5; EXP Pin: Yes; DatasheetVersion: SCPS132A; PackageVersion: revG, Jan-2011; PackageReference: DW20; PackageDescription: 20-Pin Plastic Small Outline Integrated Circuit, 12.8 x 7.5 mm, Pitch 1.27 mm Pitch; Supplier 1: Digi-Key; Supplier Part Number 1: PCA9518DWG4-ND; Supplier 2: Mouser; Supplier Part Number 2: 595-PCA9518DWG4; Eco-Plan: Green (RoHS & no Sb/Br); Vcc range(V): 3.0 to 3.6; Master Side I2C Bus Capacitance Supported(pF): 400; Slave Side I2C Bus Capacitance Supported(pF): 400; 5V Tolerant I/O: Yes; Open Drain I/O Type: Yes; Enable Pin: Yes; Mounting Technology: Surface Mount; Code_JEDEC: MS-013-AC; ComponentLink1Description: Datasheet; ComponentLink1URL: http://www.ti.com/general/docs/lit/getliterature.tsp?genericPartNumber=PCA9518&fileType=pdf; ComponentLink2Description: Package Specification; ComponentLink2URL: http://www.ti.com/litv/pdf/mpds006c
footprint DW20_N (SOIC, 20-Leads, Body 12.8x7.5mm, Pitch 1.27mm, IPC Medium Density)
footprint DW20_L (SOIC, 20-Leads, Body 12.8x7.5mm, Pitch 1.27mm, IPC High Density)
footprint DW20_M (SOIC, 20-Leads, Body 12.8x7.5mm, Pitch 1.27mm, IPC Low Density)
pins: 1 EXPSCL1 (io) "Expandable serial clock pin 1. Connect to VCC through a pullup resistor.", 2 EXPSCL2 (io) "Expandable serial clock pin 2. Connect to VCC through a pullup resistor.", 3 SCL0 (io) "Serial clock bus 0. Connect to VCC through a pullup resistor.", 4 SDA0 (io) "Serial data bus 0. Connect to VCC through a pullup resistor.", 5 SCL1 (io) "Serial clock bus 1. Connect to VCC through a pullup resistor.", 6 SDA1 (io) "Serial data bus 1. Connect to VCC through a pullup resistor.", 7 EN1 (in) "Active-high bus enable 1", 8 SCL2 (io) "Serial clock bus 2. Connect to VCC through a pullup resistor.", 9 SDA2 (io) "Serial data bus 2. Connect to VCC through a pullup resistor.", 10 GND (power) "Ground", 11 EN2 (in) "Active-high bus enable 2", 12 SCL3 (io) "Serial clock bus 3. Connect to VCC through a pullup resistor.", 13 SDA3 (io) "Serial data bus 3. Connect to VCC through a pullup resistor.", 14 EN3 (in) "Active-high bus enable 3", 15 SCL4 (io) "Serial clock bus 4. Connect to VCC through a pullup resistor.", 16 SDA4 (io) "Serial data bus 4. Connect to VCC through a pullup resistor.", 17 EN4 (in) "Active-high bus enable 4", 18 EXPSDA1 (io) "Expandable serial data pin 1. Connect to VCC through a pullup resistor.", 19 EXPSDA2 (io) "Expandable serial data pin 2. Connect to VCC through a pullup resistor.", 20 VCC (power) "SupplyVoltage"

## PCA9518DWR
designator U?
Expandable Five-Channel I2C Hub, 5 Channel Width, 3.0 to 3.6 V, -40 to 85 degC, 20-pin SOIC (DW), Green (RoHS & no Sb/Br); Manufacturer: Texas Instruments; PartNumber: PCA9518DWR; SubFamily: I2C Hub, Buffer, Repeater; VCC(Max)(V): 3.6; VCC(Min)(V): 3; Technology Family: PCA; Max Frequency(kHz): 400; Channel Width: 5; EXP Pin: Yes; DatasheetVersion: SCPS132A; PackageVersion: revG, Jan-2011; PackageReference: DW20; PackageDescription: 20-Pin Plastic Small Outline Integrated Circuit, 12.8 x 7.5 mm, Pitch 1.27 mm Pitch; Supplier 1: Digi-Key; Supplier Part Number 1: 296-22766-2-ND; Supplier 2: Digi-Key; Supplier Part Number 2: 296-22766-1-ND; Supplier 3: Digi-Key; Supplier Part Number 3: 296-22766-6-ND; Supplier 4: Newark; Supplier Part Number 4: 53M3804; Supplier 5: Mouser; Supplier Part Number 5: 595-PCA9518DWR; Eco-Plan: Green (RoHS & no Sb/Br); Vcc range(V): 3.0 to 3.6; Master Side I2C Bus Capacitance Supported(pF): 400; Slave Side I2C Bus Capacitance Supported(pF): 400; 5V Tolerant I/O: Yes; Open Drain I/O Type: Yes; Enable Pin: Yes; Mounting Technology: Surface Mount; Code_JEDEC: MS-013-AC; ComponentLink1Description: Datasheet; ComponentLink1URL: http://www.ti.com/general/docs/lit/getliterature.tsp?genericPartNumber=PCA9518&fileType=pdf; ComponentLink2Description: Package Specification; ComponentLink2URL: http://www.ti.com/litv/pdf/mpds006c
footprint DW20_N (SOIC, 20-Leads, Body 12.8x7.5mm, Pitch 1.27mm, IPC Medium Density)
footprint DW20_L (SOIC, 20-Leads, Body 12.8x7.5mm, Pitch 1.27mm, IPC High Density)
footprint DW20_M (SOIC, 20-Leads, Body 12.8x7.5mm, Pitch 1.27mm, IPC Low Density)
pins: 1 EXPSCL1 (io) "Expandable serial clock pin 1. Connect to VCC through a pullup resistor.", 2 EXPSCL2 (io) "Expandable serial clock pin 2. Connect to VCC through a pullup resistor.", 3 SCL0 (io) "Serial clock bus 0. Connect to VCC through a pullup resistor.", 4 SDA0 (io) "Serial data bus 0. Connect to VCC through a pullup resistor.", 5 SCL1 (io) "Serial clock bus 1. Connect to VCC through a pullup resistor.", 6 SDA1 (io) "Serial data bus 1. Connect to VCC through a pullup resistor.", 7 EN1 (in) "Active-high bus enable 1", 8 SCL2 (io) "Serial clock bus 2. Connect to VCC through a pullup resistor.", 9 SDA2 (io) "Serial data bus 2. Connect to VCC through a pullup resistor.", 10 GND (power) "Ground", 11 EN2 (in) "Active-high bus enable 2", 12 SCL3 (io) "Serial clock bus 3. Connect to VCC through a pullup resistor.", 13 SDA3 (io) "Serial data bus 3. Connect to VCC through a pullup resistor.", 14 EN3 (in) "Active-high bus enable 3", 15 SCL4 (io) "Serial clock bus 4. Connect to VCC through a pullup resistor.", 16 SDA4 (io) "Serial data bus 4. Connect to VCC through a pullup resistor.", 17 EN4 (in) "Active-high bus enable 4", 18 EXPSDA1 (io) "Expandable serial data pin 1. Connect to VCC through a pullup resistor.", 19 EXPSDA2 (io) "Expandable serial data pin 2. Connect to VCC through a pullup resistor.", 20 VCC (power) "SupplyVoltage"

## PCA9518DWRG4
designator U?
Expandable Five-Channel I2C Hub, 5 Channel Width, 3.0 to 3.6 V, -40 to 85 degC, 20-pin SOIC (DW), Green (RoHS & no Sb/Br); Manufacturer: Texas Instruments; PartNumber: PCA9518DWRG4; SubFamily: I2C Hub, Buffer, Repeater; VCC(Max)(V): 3.6; VCC(Min)(V): 3; Technology Family: PCA; Max Frequency(kHz): 400; Channel Width: 5; EXP Pin: Yes; DatasheetVersion: SCPS132A; PackageVersion: revG, Jan-2011; PackageReference: DW20; PackageDescription: 20-Pin Plastic Small Outline Integrated Circuit, 12.8 x 7.5 mm, Pitch 1.27 mm Pitch; Supplier 1: Digi-Key; Supplier Part Number 1: PCA9518DWRG4-ND; Supplier 2: Mouser; Supplier Part Number 2: 595-PCA9518DWRG4; Eco-Plan: Green (RoHS & no Sb/Br); Vcc range(V): 3.0 to 3.6; Master Side I2C Bus Capacitance Supported(pF): 400; Slave Side I2C Bus Capacitance Supported(pF): 400; 5V Tolerant I/O: Yes; Open Drain I/O Type: Yes; Enable Pin: Yes; Mounting Technology: Surface Mount; Code_JEDEC: MS-013-AC; ComponentLink1Description: Datasheet; ComponentLink1URL: http://www.ti.com/general/docs/lit/getliterature.tsp?genericPartNumber=PCA9518&fileType=pdf; ComponentLink2Description: Package Specification; ComponentLink2URL: http://www.ti.com/litv/pdf/mpds006c
footprint DW20_N (SOIC, 20-Leads, Body 12.8x7.5mm, Pitch 1.27mm, IPC Medium Density)
footprint DW20_L (SOIC, 20-Leads, Body 12.8x7.5mm, Pitch 1.27mm, IPC High Density)
footprint DW20_M (SOIC, 20-Leads, Body 12.8x7.5mm, Pitch 1.27mm, IPC Low Density)
pins: 1 EXPSCL1 (io) "Expandable serial clock pin 1. Connect to VCC through a pullup resistor.", 2 EXPSCL2 (io) "Expandable serial clock pin 2. Connect to VCC through a pullup resistor.", 3 SCL0 (io) "Serial clock bus 0. Connect to VCC through a pullup resistor.", 4 SDA0 (io) "Serial data bus 0. Connect to VCC through a pullup resistor.", 5 SCL1 (io) "Serial clock bus 1. Connect to VCC through a pullup resistor.", 6 SDA1 (io) "Serial data bus 1. Connect to VCC through a pullup resistor.", 7 EN1 (in) "Active-high bus enable 1", 8 SCL2 (io) "Serial clock bus 2. Connect to VCC through a pullup resistor.", 9 SDA2 (io) "Serial data bus 2. Connect to VCC through a pullup resistor.", 10 GND (power) "Ground", 11 EN2 (in) "Active-high bus enable 2", 12 SCL3 (io) "Serial clock bus 3. Connect to VCC through a pullup resistor.", 13 SDA3 (io) "Serial data bus 3. Connect to VCC through a pullup resistor.", 14 EN3 (in) "Active-high bus enable 3", 15 SCL4 (io) "Serial clock bus 4. Connect to VCC through a pullup resistor.", 16 SDA4 (io) "Serial data bus 4. Connect to VCC through a pullup resistor.", 17 EN4 (in) "Active-high bus enable 4", 18 EXPSDA1 (io) "Expandable serial data pin 1. Connect to VCC through a pullup resistor.", 19 EXPSDA2 (io) "Expandable serial data pin 2. Connect to VCC through a pullup resistor.", 20 VCC (power) "SupplyVoltage"

## PCA9518DWT
designator U?
Expandable Five-Channel I2C Hub, 5 Channel Width, 3.0 to 3.6 V, -40 to 85 degC, 20-pin SOIC (DW), Green (RoHS & no Sb/Br); Manufacturer: Texas Instruments; PartNumber: PCA9518DWT; SubFamily: I2C Hub, Buffer, Repeater; VCC(Max)(V): 3.6; VCC(Min)(V): 3; Technology Family: PCA; Max Frequency(kHz): 400; Channel Width: 5; EXP Pin: Yes; DatasheetVersion: SCPS132A; PackageVersion: revG, Jan-2011; PackageReference: DW20; PackageDescription: 20-Pin Plastic Small Outline Integrated Circuit, 12.8 x 7.5 mm, Pitch 1.27 mm Pitch; Supplier 1: Digi-Key; Supplier Part Number 1: PCA9518DWT-ND; Supplier 2: Mouser; Supplier Part Number 2: 595-PCA9518DWT; Eco-Plan: Green (RoHS & no Sb/Br); Vcc range(V): 3.0 to 3.6; Master Side I2C Bus Capacitance Supported(pF): 400; Slave Side I2C Bus Capacitance Supported(pF): 400; 5V Tolerant I/O: Yes; Open Drain I/O Type: Yes; Enable Pin: Yes; Mounting Technology: Surface Mount; Code_JEDEC: MS-013-AC; ComponentLink1Description: Datasheet; ComponentLink1URL: http://www.ti.com/general/docs/lit/getliterature.tsp?genericPartNumber=PCA9518&fileType=pdf; ComponentLink2Description: Package Specification; ComponentLink2URL: http://www.ti.com/litv/pdf/mpds006c
footprint DW20_N (SOIC, 20-Leads, Body 12.8x7.5mm, Pitch 1.27mm, IPC Medium Density)
footprint DW20_L (SOIC, 20-Leads, Body 12.8x7.5mm, Pitch 1.27mm, IPC High Density)
footprint DW20_M (SOIC, 20-Leads, Body 12.8x7.5mm, Pitch 1.27mm, IPC Low Density)
pins: 1 EXPSCL1 (io) "Expandable serial clock pin 1. Connect to VCC through a pullup resistor.", 2 EXPSCL2 (io) "Expandable serial clock pin 2. Connect to VCC through a pullup resistor.", 3 SCL0 (io) "Serial clock bus 0. Connect to VCC through a pullup resistor.", 4 SDA0 (io) "Serial data bus 0. Connect to VCC through a pullup resistor.", 5 SCL1 (io) "Serial clock bus 1. Connect to VCC through a pullup resistor.", 6 SDA1 (io) "Serial data bus 1. Connect to VCC through a pullup resistor.", 7 EN1 (in) "Active-high bus enable 1", 8 SCL2 (io) "Serial clock bus 2. Connect to VCC through a pullup resistor.", 9 SDA2 (io) "Serial data bus 2. Connect to VCC through a pullup resistor.", 10 GND (power) "Ground", 11 EN2 (in) "Active-high bus enable 2", 12 SCL3 (io) "Serial clock bus 3. Connect to VCC through a pullup resistor.", 13 SDA3 (io) "Serial data bus 3. Connect to VCC through a pullup resistor.", 14 EN3 (in) "Active-high bus enable 3", 15 SCL4 (io) "Serial clock bus 4. Connect to VCC through a pullup resistor.", 16 SDA4 (io) "Serial data bus 4. Connect to VCC through a pullup resistor.", 17 EN4 (in) "Active-high bus enable 4", 18 EXPSDA1 (io) "Expandable serial data pin 1. Connect to VCC through a pullup resistor.", 19 EXPSDA2 (io) "Expandable serial data pin 2. Connect to VCC through a pullup resistor.", 20 VCC (power) "SupplyVoltage"